# Altium integrated library C0805C475K4PACTU.IntLib: 1 symbol
Pins are listed as number, name and electrical type; pins without a type are passive.

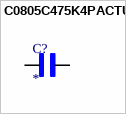
[diagram p0: symbol C0805C475K4PACTU]

## C0805C475K4PACTU
designator C?
4.7 ÂµF Â±10% 16V Ceramic Capacitor X5R 0805 (2012 Metric); MF: KEMET; MP: C0805C475K4PACTU; SnapEDA_Link: https://www.snapeda.com/parts/C0805C475K4PACTU/KEMET/view-part/?ref=snap; Package: 0805 Kemet; Value: *; Check_prices: https://www.snapeda.com/parts/C0805C475K4PACTU/KEMET/view-part/?ref=eda
footprint CAPC2012X88N
pins: 1, 2